# EAGLE library part TP8 (library monome)
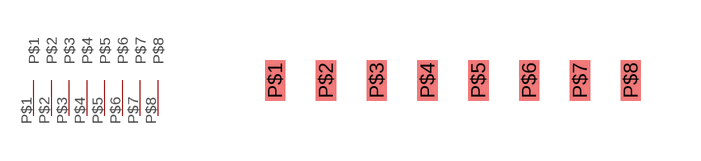
[diagram p14: symbol with the pads of TP8; footprint TP8]

Designator prefix -

## TP8  [TP8]
P$1  P$1
P$2  P$2
P$3  P$3
P$4  P$4
P$5  P$5
P$6  P$6
P$7  P$7
P$8  P$8

## Footprint TP8 (pad centres in mm)
smd 0.508 x 1.016: P$1 0,0; P$2 1.27,0; P$3 2.54,0; P$4 3.81,0; P$5 5.08,0; P$6 6.35,0; P$7 7.62,0; P$8 8.89,0